# Altium schematic symbol library ShutdownButton.SchLib: 1 symbol
Pins are listed as number, name and electrical type; pins without a type are passive.

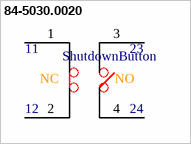
[diagram p0: symbol 84-5030.0020]

## 84-5030.0020
designator ShutdownButton
footprint ShutDownButton (Emergency-stop switch complete, foolproof EN IEC 60947-5-5)
pins: 1, 2, 3, 4
text: 11; 23; NC; NO; 12; 24